# EAGLE library part FM25V20 (library memory-cypress)
FRAM Memory 2Mb Serial 3V F-RAM Memory
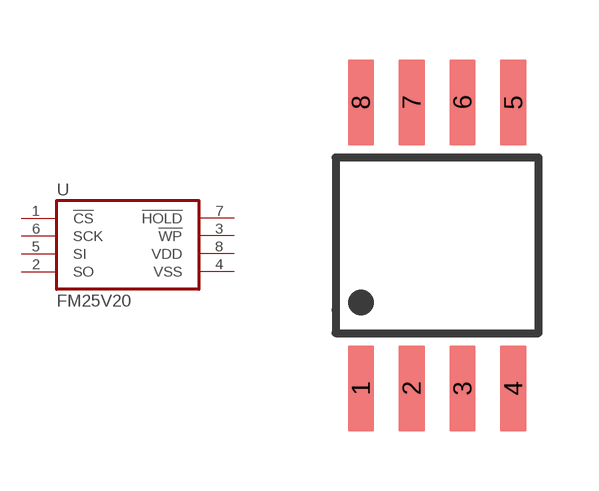
[diagram p4: symbol with the pads of SO8-EIAJ; footprint SO8-EIAJ]

Designator prefix U

## FM25V20-G  [SO8-EIAJ]
1  !CS!  in
2  SO  out
3  !WP!  in
4  VSS  pwr
5  SI  in
6  SCK  in
7  !HOLD!  in
8  VDD  pwr

## Footprint SO8-EIAJ (pad centres in mm)
SO8-EIAJ body 5.3 x 5.2 mm
smd 0.65 x 2.15: 1 -1.905,-3.575; 2 -0.635,-3.575; 3 0.635,-3.575; 4 1.905,-3.575; 5 1.905,3.575; 6 0.635,3.575; 7 -0.635,3.575; 8 -1.905,3.575